# Altium schematic symbol library Schlib1.SchLib: 14 symbols
Pins are listed as number, name and electrical type; pins without a type are passive.

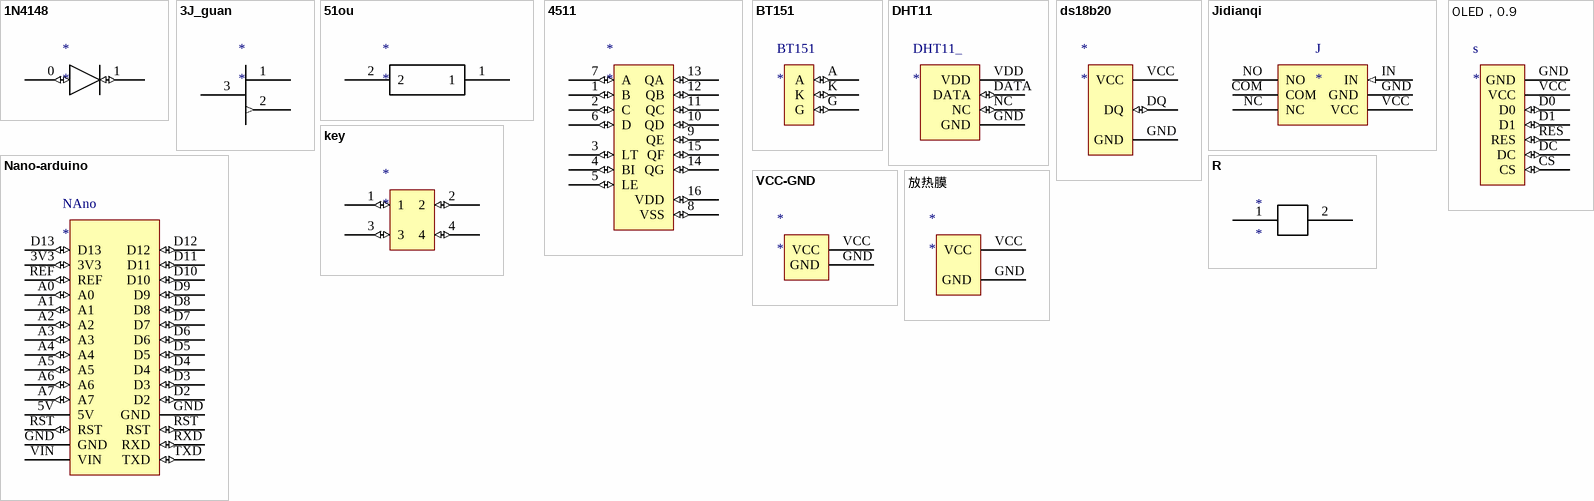
[diagram p0: symbols 1N4148 to 放热膜]

## 1N4148
designator *
footprint 1N4148
pins: 0 (io), 1 (io)

## 3J_guan
designator *
footprint 3J
pins: 1 (power), 2 (out), 3 (power)

## 51ou
designator *
footprint 51ou
pins: 1 (power), 2 (power)

## 4511
designator *
footprint 4511
pins: 1 B (io), 2 C (io), 3 LT (io), 4 BI (io), 5 LE (io), 6 D (io), 7 A (io), 8 VSS (io), 9 QE (io), 10 QD (io), 11 QC (io), 12 QB (io), 13 QA (io), 14 QG (io), 15 QF (io), 16 VDD (io)

## BT151
designator BT151
footprint BT151
pins: A (io), G (io), K (io)

## DHT11
designator DHT11_
footprint DHT11
pins: DATA (io), GND (power), NC (io), VDD (power)

## ds18b20
designator *
footprint ds18b20
pins: DQ (io), GND (power), VCC (power)

## Jidianqi
designator J
footprint Jidianqi
pins: COM (power), GND (power), IN (in), NC (power), NO (power), VCC (power)

## key
designator *
footprint key
pins: 1 (io), 2 (io), 3 (io), 4 (io)

## Nano-arduino
designator NAno
footprint Nano
pins: 3V3 (io), 5V (power), A0 (io), A1 (io), A2 (io), A3 (io), A4 (io), A5 (io), A6 (io), A7 (io), D2 (io), D3 (io), D4 (io), D5 (io), D6 (io), D7 (io), D8 (io), D9 (io), D10 (io), D11 (io), D12 (io), D13 (io), GND (power), GND (power), REF (io), RST (io), RST (io), RXD (io), TXD (io), VIN (power)

## OLED，0.9
designator s
footprint OLED 0.9
pins: CS (io), D0 (io), D1 (io), DC (io), GND (power), RES (io), VCC (power)

## R
designator *
footprint 51ou
pins: 1 (power), 2 (power)

## VCC-GND
designator *
footprint VCC-gnd
pins: GND (power), VCC (power)

## 放热膜
designator *
footprint hit-pic
pins: GND (power), VCC (power)